# EAGLE library part MATRIX-8X8-SINGLE (library Ai_LED)
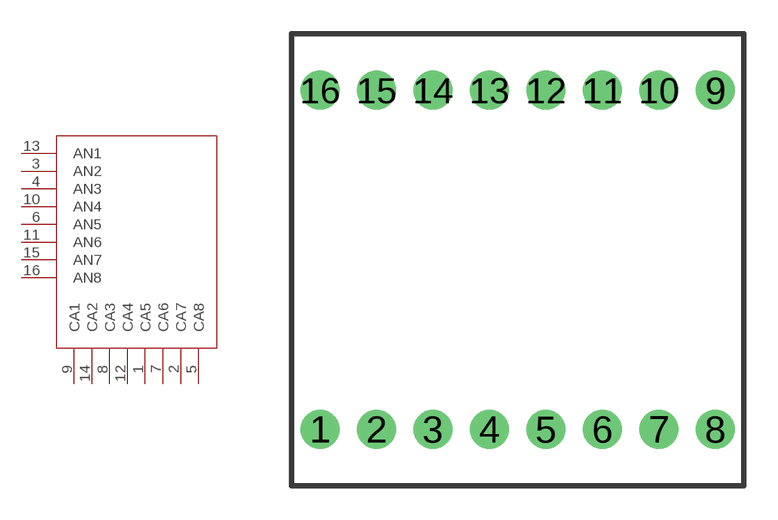
[diagram p2: symbol with the pads of LEDM88SMR; footprint LEDM88SMR]

Designator prefix -

## MATRIX-8X8-SINGLE  [LEDM88SMR]
1  CA5
2  CA7
3  AN2
4  AN3
5  CA8
6  AN5
7  CA6
8  CA3
9  CA1
10  AN4
11  AN6
12  CA4
13  AN1  in
14  CA2
15  AN7
16  AN8

## Footprint LEDM88SMR (pad centres in mm)
drill 0.813 pad 1.727: 1 -8.75,-7.5; 2 -6.25,-7.5; 3 -3.75,-7.5; 4 -1.25,-7.5; 5 1.25,-7.5; 6 3.75,-7.5; 7 6.25,-7.5; 8 8.75,-7.5; 9 8.75,7.5; 10 6.25,7.5; 11 3.75,7.5; 12 1.25,7.5; 13 -1.25,7.5; 14 -3.75,7.5; 15 -6.25,7.5; 16 -8.75,7.5